# EAGLE library part J-06- (library con-headers-jp)
HEADER JACK PINS
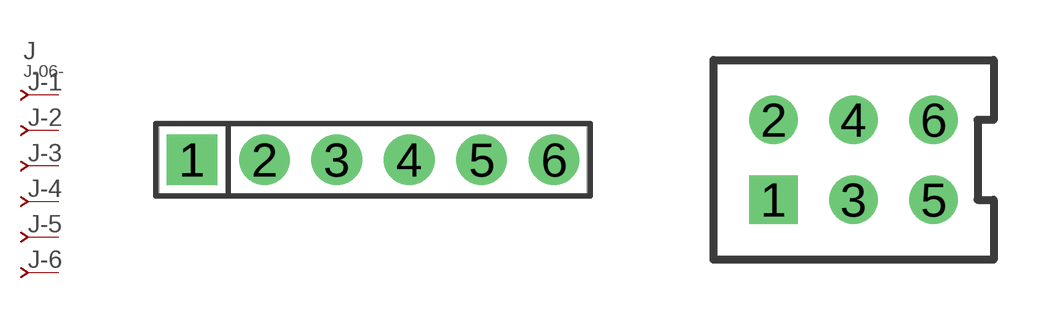
[diagram p0: symbol with the pads of SIP-100-06-40; footprints SIP-100-06-40, 79107-06]

Designator prefix J; gates -2=J-N -3=J-N -4=J-N -5=J-N -6=J-N -1=J-NV

## J-06-SIP-100-40  [SIP-100-06-40]
1  -1:J  pas
2  -2:J  pas
3  -3:J  pas
4  -4:J  pas
5  -5:J  pas
6  -6:J  pas

## J-06-79107  [79107-06]
Pads as for SIP-100-06-40

## J-06-79109  [79109-06]
Pads as for SIP-100-06-40

## J-06-87340  [87340-06]
Pads as for SIP-100-06-40

## J-06-535512  [535512-06]
Pads as for SIP-100-06-40

## J-06-100-2X03  [DIL-100-2X03]
Pads as for SIP-100-06-40

## J-06-100-2X03_M  [DIL-100-2X03_M]
Pads as for SIP-100-06-40

## J-06-2MM-2X03  [DIL-2MM-2X03]
Pads as for SIP-100-06-40

## J-06-2MM-2X03_M  [DIL-2MM-2X03_M]
Pads as for SIP-100-06-40

## J-06-SIP-100-32  [SIP-100-06-32]
Pads as for SIP-100-06-40

## J-06-SIP-100-40Y  [SIP-100-06-40Y]
Pads as for SIP-100-06-40

## J-06-SIP-100-32Y  [SIP-100-06-32Y]
Pads as for SIP-100-06-40

## J-06-KK-4455-B06  [KK-4455-B06]
Pads as for SIP-100-06-40

## J-06-KK-4455-A06  [KK-4455-A06]
Pads as for SIP-100-06-40

## J-06-KK-4455-C06  [KK-4455-C06]
Pads as for SIP-100-06-40

## Footprint SIP-100-06-40 (pad centres in mm)
SIP Header - 0.1", 40 mil drill
drill 1.016 pad 1.778 square: 1 -6.35,0
drill 1.016 pad 1.778: 2 -3.81,0; 3 -1.27,0; 4 1.27,0; 5 3.81,0; 6 6.35,0

## Footprint 79107-06 (pad centres in mm)
Molex Board-To-Board Receptacal 2.00mm (.079") Pitch Milli-Grid Header, Vertical, Through-Hole Mates with: 87759, 87762, 87758, 87760
drill 0.711 square: 1 -2,-1
drill 0.711: 2 -2,1; 3 0,-1; 4 0,1; 5 2,-1; 6 2,1

## Footprint 79109-06 (pad centres in mm)
Molex Board-to-Board Receptacal 2.00mm (.079") Pitch Milli-Grid Header, Vertical, Top/Bottom Entry Mates with: 87758, 87759, 87760, 87831, 87832, 87833
smd 1.12 x 1.83: 1 -2,-2.65; 2 -2,2.65; 3 0,-2.65; 4 0,2.65; 5 2,-2.65; 6 2,2.65
hole 0.914 at -1,0
hole 0.914 at -2,1
hole 0.914 at -2,-1
hole 0.914 at 0,-1
hole 0.914 at 0,1
hole 0.914 at 2,-1
hole 0.914 at 2,1
hole 0.914 at 1,0

## Footprint 87340-06 (pad centres in mm)
Molex Board-To-Board Receptacal 2.00mm (.079") Pitch Milli-Grid Header, Vertical, Top/Bottom Entry Mates with: 87758, 87759, 87760, 87831, 87832, 87833
smd 1 x 1.75: 1 -2,-2.5; 2 -2,2.5; 3 0,-2.5; 4 0,2.5; 5 2,-2.5; 6 2,2.5
hole 0.914 at -3,0
hole 0.914 at -2,1
hole 0.914 at -2,-1
hole 0.914 at 0,-1
hole 0.914 at 0,1
hole 0.914 at 3,0
hole 0.914 at 2,1
hole 0.914 at 2,-1

## Footprint 535512-06 (pad centres in mm)
AMPMODU - 535512 Series
drill 1.016 square: 1 -2.54,0
drill 1.016 octagon: 2 -2.54,7.938; 3 0,0; 4 0,7.938; 5 2.54,0; 6 2.54,7.938

## Footprint DIL-100-2X03 (pad centres in mm)
PIN HEADER - 0.1"
drill 1.016 square: 1 -2.54,-1.27
drill 1.016 octagon: 2 -2.54,1.27; 3 0,-1.27; 4 0,1.27; 5 2.54,-1.27; 6 2.54,1.27

## Footprint DIL-100-2X03_M (pad centres in mm)
PIN HEADER - MIRRORED 0.1"
drill 1.016 square: 1 -2.54,1.27
drill 1.016 octagon: 2 -2.54,-1.27; 3 0,1.27; 4 0,-1.27; 5 2.54,1.27; 6 2.54,-1.27

## Footprint DIL-2MM-2X03 (pad centres in mm)
PIN HEADER - 2MM"
drill 0.711 pad 1.321 square: 1 -2,-1
drill 0.711 pad 1.321: 2 -2,1; 3 0,-1; 4 0,1; 5 2,-1; 6 2,1

## Footprint DIL-2MM-2X03_M (pad centres in mm)
PIN HEADER - MIRRORED 2MM
drill 0.711 pad 1.321 square: 1 -2,1
drill 0.711 pad 1.321: 2 -2,-1; 3 0,1; 4 0,-1; 5 2,1; 6 2,-1

## Footprint SIP-100-06-32 (pad centres in mm)
SIP Header - 0.1", 32 mil drill
drill 0.813 pad 1.778 square: 1 -6.35,0
drill 0.813 pad 1.778 octagon: 2 -3.81,0; 3 -1.27,0; 4 1.27,0; 5 3.81,0; 6 6.35,0

## Footprint SIP-100-06-40Y (pad centres in mm)
SIP Header - 0.1", 40 mil drill
drill 1.016 long: 1 -6.35,0; 2 -3.81,0; 3 -1.27,0; 4 1.27,0; 5 3.81,0; 6 6.35,0

## Footprint SIP-100-06-32Y (pad centres in mm)
SIP Header - 0.1", 32 mil drill
drill 0.813 long: 1 -6.35,0; 2 -3.81,0; 3 -1.27,0; 4 1.27,0; 5 3.81,0; 6 6.35,0

## Footprint KK-4455-B06 (pad centres in mm)
KK100 Molex 4455 Series, Vertical, Bottom Entry, 0.1" pitch
drill 1.067 long: 1 -6.35,0; 2 -3.81,0; 3 -1.27,0; 4 1.27,0; 5 3.81,0; 6 6.35,0
hole 1.778 at -6.35,3.81
hole 1.778 at -3.81,3.81
hole 1.778 at -1.27,3.81
hole 1.778 at 1.27,3.81
hole 1.778 at 3.81,3.81
hole 1.778 at 6.35,3.81

## Footprint KK-4455-A06 (pad centres in mm)
KK100 Molex 4455 Series, Right Angle, 0.1" pitch
drill 1.067 long: 1 -6.35,0; 2 -3.81,0; 3 -1.27,0; 4 1.27,0; 5 3.81,0; 6 6.35,0

## Footprint KK-4455-C06 (pad centres in mm)
KK100 Molex 4455 Series, Vertical, Top Entry, 0.1" pitch
drill 1.016 pad 1.778 octagon: 1 -6.35,0; 2 -3.81,0; 3 -1.27,0; 4 1.27,0; 5 3.81,0; 6 6.35,0
hole 1.778 at -6.35,2.54
hole 1.778 at -3.81,2.54
hole 1.778 at -1.27,2.54
hole 1.778 at 1.27,2.54
hole 1.778 at 3.81,2.54
hole 1.778 at 6.35,2.54